# Altium integrated library TI Logic Translator.IntLib: 9 symbols
Pins are listed as number, name and electrical type; pins without a type are passive.

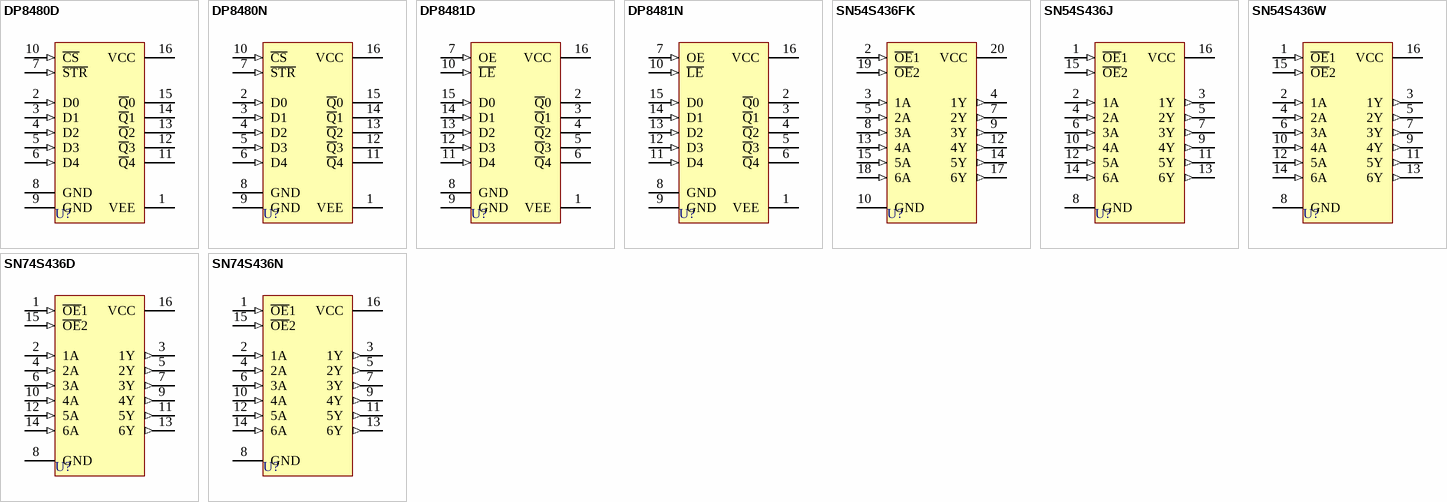
[diagram p0: symbols DP8480D to SN74S436N]

## DP8480D
designator U?
10K ECL-To-TTL Level Translator with Latch; Published: 15-May-2002; LatestRevisionDate: 13-Apr-2006; LatestRevisionNote: IPC-7351 Footprint Added.; DatasheetVersion: Dec-1988; PackageVersion: Jan-1998; PackageReference: D016; Publisher: Altium Limited; PackageDescription: 16-Pin Small Outline Integrated Circuit 1.27 mm Pitch; Code_IPC: SOIC127P600-16; ComponentLink1Description: Manufacturer Link; ComponentLink1URL: http://www.ti.com/
footprint D016_N (SOIC, 16-Leads, Body 9.9x3.9mm, Pitch 1.27mm, IPC Medium Density)
footprint D016_L (SOIC, 16-Leads, Body 9.9x3.9mm, Pitch 1.27mm, IPC High Density)
footprint D016_M (SOIC, 16-Leads, Body 9.9x3.9mm, Pitch 1.27mm, IPC Low Density)
3D model D016 (16-Pin Small Outline Integrated Circuit 1.27 mm Pitch)
pins: 1 VEE (power), 2 D0 (in), 3 D1 (in), 4 D2 (in), 5 D3 (in), 6 D4 (in), 7 ~{STR} (in), 8 GND (power), 9 GND (power), 10 ~{CS} (in), 11 ~{Q}4 (hiz), 12 ~{Q}3 (hiz), 13 ~{Q}2 (hiz), 14 ~{Q}1 (hiz), 15 ~{Q}0 (hiz), 16 VCC (power)

## DP8480N
designator U?
10K ECL-To-TTL Level Translator with Latch; Published: 15-May-2002; LatestRevisionDate: 04-Mar-2005; LatestRevisionNote: Stylized 3D Model Added.; DatasheetVersion: Dec-1988; PackageVersion: Oct-1995; PackageReference: N016; Publisher: Altium Limited; PackageDescription: DIP; 16 Leads; Row Spacing 7.62 mm; Pitch 2.54 mm; Code_JEDEC: MS-001-BB; ComponentLink1Description: Manufacturer Link; ComponentLink1URL: http://www.ti.com/
footprint N016 (DIP; 16 Leads; Row Spacing 7.62 mm; Pitch 2.54 mm)
3D model N016 (DIP; 16 Leads; Row Spacing 7.62 mm; Pitch 2.54 mm)
pins: 1 VEE (power), 2 D0 (in), 3 D1 (in), 4 D2 (in), 5 D3 (in), 6 D4 (in), 7 ~{STR} (in), 8 GND (power), 9 GND (power), 10 ~{CS} (in), 11 ~{Q}4 (hiz), 12 ~{Q}3 (hiz), 13 ~{Q}2 (hiz), 14 ~{Q}1 (hiz), 15 ~{Q}0 (hiz), 16 VCC (power)

## DP8481D
designator U?
TTL-to-ECL (10K) Level Translator with Latch; Published: 15-May-2002; LatestRevisionDate: 13-Apr-2006; LatestRevisionNote: IPC-7351 Footprint Added.; DatasheetVersion: Aug-1989; PackageVersion: Jan-1998; PackageReference: D016; Publisher: Altium Limited; PackageDescription: 16-Pin Small Outline Integrated Circuit 1.27 mm Pitch; Code_IPC: SOIC127P600-16; ComponentLink1Description: Manufacturer Link; ComponentLink1URL: http://www.ti.com/
footprint D016_N (SOIC, 16-Leads, Body 9.9x3.9mm, Pitch 1.27mm, IPC Medium Density)
footprint D016_L (SOIC, 16-Leads, Body 9.9x3.9mm, Pitch 1.27mm, IPC High Density)
footprint D016_M (SOIC, 16-Leads, Body 9.9x3.9mm, Pitch 1.27mm, IPC Low Density)
3D model D016 (16-Pin Small Outline Integrated Circuit 1.27 mm Pitch)
pins: 1 VEE (power), 2 ~{Q}0 (oe), 3 ~{Q}1 (oe), 4 ~{Q}2 (oe), 5 ~{Q}3 (oe), 6 ~{Q}4 (oe), 7 OE (in), 8 GND (power), 9 GND (power), 10 ~{LE} (in), 11 D4 (in), 12 D3 (in), 13 D2 (in), 14 D1 (in), 15 D0 (in), 16 VCC (power)

## DP8481N
designator U?
TTL-to-ECL (10K) Level Translator with Latch; Published: 15-May-2002; LatestRevisionDate: 04-Mar-2005; LatestRevisionNote: Stylized 3D Model Added.; DatasheetVersion: Aug-1989; PackageVersion: Oct-1995; PackageReference: N016; Publisher: Altium Limited; PackageDescription: DIP; 16 Leads; Row Spacing 7.62 mm; Pitch 2.54 mm; Code_JEDEC: MS-001-BB; ComponentLink1Description: Manufacturer Link; ComponentLink1URL: http://www.ti.com/
footprint N016 (DIP; 16 Leads; Row Spacing 7.62 mm; Pitch 2.54 mm)
3D model N016 (DIP; 16 Leads; Row Spacing 7.62 mm; Pitch 2.54 mm)
pins: 1 VEE (power), 2 ~{Q}0 (oe), 3 ~{Q}1 (oe), 4 ~{Q}2 (oe), 5 ~{Q}3 (oe), 6 ~{Q}4 (oe), 7 OE (in), 8 GND (power), 9 GND (power), 10 ~{LE} (in), 11 D4 (in), 12 D3 (in), 13 D2 (in), 14 D1 (in), 15 D0 (in), 16 VCC (power)

## SN54S436FK
designator U?
Line Driver/Memory Driver Circuit; ComponentAvailability: Not Available; Note: Pins 1, 6, 11 and 16 are not connected and not drawn; Published: 8-Jun-2000; LatestRevisionDate: 17-Jul-2002; LatestRevisionNote: Re-released for DXP Platform.; DatasheetVersion: Mar-1988; PackageVersion: 1998; PackageReference: FK020C; Publisher: Altium Limited; PackageDescription: Leadless Chip Carrier; 20 Terminals; Body 8.9 x 8.9 mm; ComponentLink1Description: Manufacturer Link; ComponentLink1URL: http://www.ti.com/; ComponentLink2Description: Datasheet; ComponentLink2URL: http://www-s.ti.com/sc/ds/sn74s436.pdf
footprint FK020C (Leadless Chip Carrier; 20 Terminals; Body 8.9 x 8.9 mm)
signal-integrity model SN54S436FK
pins: 2 ~{OE}1 (in), 3 1A (in), 4 1Y (out), 5 2A (in), 7 2Y (out), 8 3A (in), 9 3Y (out), 10 GND (power), 12 4Y (out), 13 4A (in), 14 5Y (out), 15 5A (in), 17 6Y (out), 18 6A (in), 19 ~{OE}2 (in), 20 VCC (power)

## SN54S436J
designator U?
Line Driver/Memory Driver Circuit; ComponentAvailability: Not Available; Published: 8-Jun-2000; LatestRevisionDate: 04-Mar-2005; LatestRevisionNote: Stylized 3D Model Added.; DatasheetVersion: Mar-1988; PackageVersion: Jun-1999; PackageReference: J016C; Publisher: Altium Limited; PackageDescription: DIP; 16 Leads; Row Spacing 7.62 mm; Pitch 2.54 mm; ComponentLink1Description: Manufacturer Link; ComponentLink1URL: http://www.ti.com/; ComponentLink2Description: Datasheet; ComponentLink2URL: http://www-s.ti.com/sc/ds/sn74s436.pdf
footprint J016C (DIP; 16 Leads; Row Spacing 7.62 mm; Pitch 2.54 mm)
3D model J016 (DIP; 16 Leads; Row Spacing 7.62 mm; Pitch 2.54 mm)
signal-integrity model SN54S436J
pins: 1 ~{OE}1 (in), 2 1A (in), 3 1Y (out), 4 2A (in), 5 2Y (out), 6 3A (in), 7 3Y (out), 8 GND (power), 9 4Y (out), 10 4A (in), 11 5Y (out), 12 5A (in), 13 6Y (out), 14 6A (in), 15 ~{OE}2 (in), 16 VCC (power)

## SN54S436W
designator U?
Line Driver/Memory Driver Circuit; ComponentAvailability: Not Available; Published: 8-Jun-2000; LatestRevisionDate: 04-Mar-2005; LatestRevisionNote: Stylized 3D Model Added.; DatasheetVersion: Mar-1988; PackageVersion: Jan-1995; PackageReference: W016; Publisher: Altium Limited; PackageDescription: DFP; 16 Leads; Body 10.9 x 7.2 mm (LxW max); Pitch 1.27 mm; Code_JEDEC: MO-092-AC; ComponentLink1Description: Manufacturer Link; ComponentLink1URL: http://www.ti.com/; ComponentLink2Description: Datasheet; ComponentLink2URL: http://www-s.ti.com/sc/ds/sn74s436.pdf
footprint W016 (DFP; 16 Leads; Body 10.9 x 7.2 mm (LxW max); Pitch 1.27 mm)
3D model W016 (DFP; 16 Leads; Body 10.9 x 7.2 mm (LxW max); Pitch 1.27 mm)
signal-integrity model SN54S436W
pins: 1 ~{OE}1 (in), 2 1A (in), 3 1Y (out), 4 2A (in), 5 2Y (out), 6 3A (in), 7 3Y (out), 8 GND (power), 9 4Y (out), 10 4A (in), 11 5Y (out), 12 5A (in), 13 6Y (out), 14 6A (in), 15 ~{OE}2 (in), 16 VCC (power)

## SN74S436D
designator U?
Line Driver/Memory Driver Circuit; ComponentAvailability: Not Available; Published: 8-Jun-2000; LatestRevisionDate: 13-Apr-2006; LatestRevisionNote: IPC-7351 Footprint Added.; DatasheetVersion: Mar-1988; PackageVersion: Jan-1998; PackageReference: D016; Publisher: Altium Limited; PackageDescription: 16-Pin Small Outline Integrated Circuit 1.27 mm Pitch; Code_IPC: SOIC127P600-16; ComponentLink1Description: Manufacturer Link; ComponentLink1URL: http://www.ti.com/; ComponentLink2Description: Datasheet; ComponentLink2URL: http://www-s.ti.com/sc/ds/sn74s436.pdf
footprint D016_N (SOIC, 16-Leads, Body 9.9x3.9mm, Pitch 1.27mm, IPC Medium Density)
footprint D016_L (SOIC, 16-Leads, Body 9.9x3.9mm, Pitch 1.27mm, IPC High Density)
footprint D016_M (SOIC, 16-Leads, Body 9.9x3.9mm, Pitch 1.27mm, IPC Low Density)
3D model D016 (16-Pin Small Outline Integrated Circuit 1.27 mm Pitch)
signal-integrity model SN74S436D
pins: 1 ~{OE}1 (in), 2 1A (in), 3 1Y (out), 4 2A (in), 5 2Y (out), 6 3A (in), 7 3Y (out), 8 GND (power), 9 4Y (out), 10 4A (in), 11 5Y (out), 12 5A (in), 13 6Y (out), 14 6A (in), 15 ~{OE}2 (in), 16 VCC (power)

## SN74S436N
designator U?
Line Driver/Memory Driver Circuit; ComponentAvailability: Not Available; Published: 8-Jun-2000; LatestRevisionDate: 04-Mar-2005; LatestRevisionNote: Stylized 3D Model Added.; DatasheetVersion: Mar-1988; PackageVersion: Oct-1995; PackageReference: N016C; Publisher: Altium Limited; PackageDescription: DIP; 16 Leads; Row Spacing 7.62 mm; Pitch 2.54 mm; Code_JEDEC: MS-001-BB; ComponentLink1Description: Manufacturer Link; ComponentLink1URL: http://www.ti.com/; ComponentLink2Description: Datasheet; ComponentLink2URL: http://www-s.ti.com/sc/ds/sn74s436.pdf
footprint N016C (DIP; 16 Leads; Row Spacing 7.62 mm; Pitch 2.54 mm)
3D model N016 (DIP; 16 Leads; Row Spacing 7.62 mm; Pitch 2.54 mm)
signal-integrity model SN74S436N
pins: 1 ~{OE}1 (in), 2 1A (in), 3 1Y (out), 4 2A (in), 5 2Y (out), 6 3A (in), 7 3Y (out), 8 GND (power), 9 4Y (out), 10 4A (in), 11 5Y (out), 12 5A (in), 13 6Y (out), 14 6A (in), 15 ~{OE}2 (in), 16 VCC (power)